# Altium schematic symbol library Gamepad_Schematic_Library.SchLib: 10 symbols
Pins are listed as number, name and electrical type; pins without a type are passive.

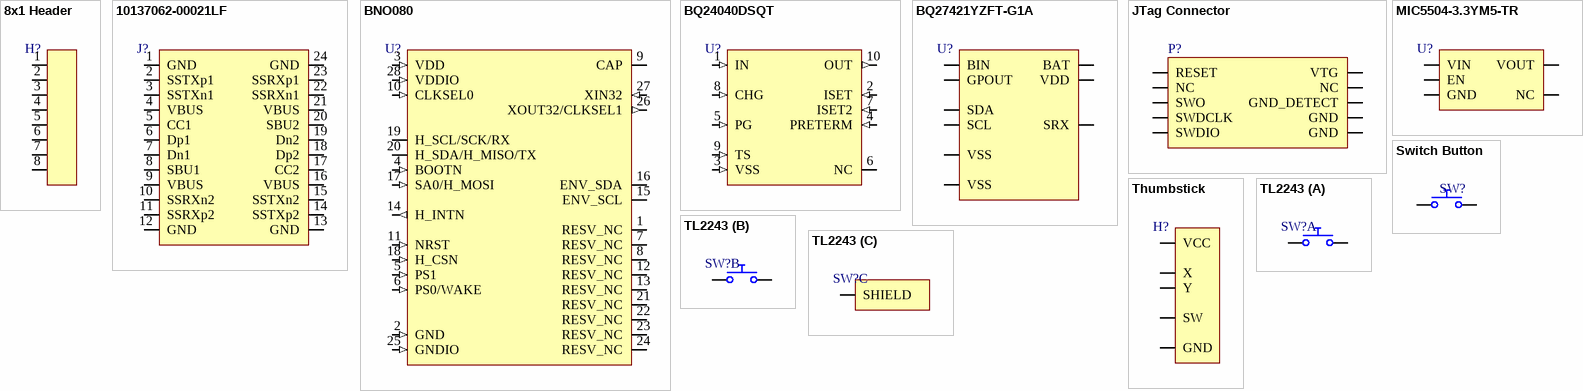
[diagram p0: symbols 8x1 Header to TL2243]

## 8x1 Header
designator H?  (value not drawn)
System: Connector
footprint SMD Header Female
footprint SMD Header Male
pins: 1, 2, 3, 4, 5, 6, 7, 8

## 10137062-00021LF
designator J?  (value not drawn)
Conn USB Type C RCP 24 POS 0.5mm Solder RA SMD/Thru-Hole 24 Terminal 1Port T/R; Manufacturer 1: Amphenol FCI; Manufacturer Part Number 1: 10137062-00021LF; Supplier 1: Digi-Key; Supplier Part Number 1: 609-6109-1-ND; RoHS: No; Stock 1: 8265; Pricing 1: 1=2.16000, 10=1.95600, 25=1.83600, 50=1.75620, 100=1.67640, 250=1.51676, 500=1.39702 (USD)
footprint USB Type C
pins: 1 GND, 2 SSTXp1, 3 SSTXn1, 4 VBUS, 5 CC1, 6 Dp1, 7 Dn1, 8 SBU1, 9 VBUS, 10 SSRXn2, 11 SSRXp2, 12 GND, 13 GND, 14 SSTXp2, 15 SSTXn2, 16 VBUS, 17 CC2, 18 Dp2, 19 Dn2, 20 SBU2, 21 VBUS, 22 SSRXn1, 23 SSRXp1, 24 GND

## BNO080
designator U?  (value not drawn)
IMU ACCEL/GYRO/MAG I2C 32BIT; Manufacturer 1: Hillcrest Laboratories; Manufacturer Part Number 1: BNO080; Sensor Type: Accelerometer,Gyroscope,Magnetometer; Output Type: SPI,I2C; Supplier 1: Digi-Key; Supplier Part Number 1: 1888-1000-1-ND; RoHS: No; Category: Inertial Measurement Units (IMUs); Mount: Surface Mount; Case/Package: LGA; Min Operating Temperature: -40°C; Max Operating Temperature: 85°C; Packaging: Tape and Reel; ComponentLink1URL: http://www.hillcrestlabs.com/download/5a05f340566d07c196001ec1?src-supplier=Digi-Key; ComponentLink1Description: http://www.hillcrestlabs.com/download/5a05f340566d07c196001ec1?src-supplier=Digi-Key
footprint BNO080
pins: 1 RESV_NC, 2 GND (in), 3 VDD (in), 4 BOOTN (in), 5 PS1 (in), 6 PS0/WAKE (in), 7 RESV_NC, 8 RESV_NC, 9 CAP, 10 CLKSEL0 (in), 11 NRST (in), 12 RESV_NC, 13 RESV_NC, 14 H_INTN (out), 15 ENV_SCL (io), 16 ENV_SDA (io), 17 SA0/H_MOSI (in), 18 H_CSN (in), 19 H_SCL/SCK/RX (io), 20 H_SDA/H_MISO/TX (io), 21 RESV_NC, 22 RESV_NC, 23 RESV_NC, 24 RESV_NC, 25 GNDIO (in), 26 XOUT32/CLKSEL1 (out), 27 XIN32 (in), 28 VDDIO (in)

## BQ24040DSQT
designator U?  (value not drawn)
Battery Charging IC 3.5...28 V DFN-10, BQ24040DSQT, Texas Instruments; Number of Cells: 1; Max Input Voltage: 28V; Max Supply Voltage: 6.45V; Min Supply Voltage: 4.75V; Output Voltage: 4.2V; Output Current: 800mA; Min Input Voltage: 3.5V; Operating Supply Current: 1.25A; Max Output Current: 1A; Min Output Voltage: 4.3V; Supplier 1: Digi-Key; Supplier Part Number 1: 296-25136-1-ND; Manufacturer 1: Texas Instruments; Manufacturer Part Number 1: BQ24040DSQT; RoHS: Yes; Category: Voltage Regulators - Linear; Pricing 1: 1=1.49000, 10=1.33200, 25=1.26440, 100=0.97090 (USD); Case/Package: DFN; Number of Pins: 10; Contact Plating: Gold; Min Operating Temperature: -40°C; Max Operating Temperature: 125°C; Package Quantity: 1; Packaging: Tape and Reel; Max Output Voltage: 4.2V; Termination: SMD/SMT; Max Charge Current: 800mA; Length: 2.1mm; Width: 2.1mm; Height: 0.75mm; Radiation Hardening: No; REACH SVHC: No SVHC; Lead Free: Lead Free; ComponentLink1URL: https://datasheet.ciiva.com/1136/1705385-1136576.pdf?src-supplier=Element14; ComponentLink1Description: https://datasheet.ciiva.com/1136/1705385-1136576.pdf?src-supplier=Element14; ComponentLink2URL: https://datasheet.ciiva.com/1932/bq24040-1932321.pdf?src-supplier=Digi-Key; ComponentLink2Description: https://datasheet.ciiva.com/1932/bq24040-1932321.pdf?src-supplier=Digi-Key; ComponentLink3URL: https://datasheet.ciiva.com/15114/getdatasheetpartid-188147-15114498.pdf?src-supplier=Verical; ComponentLink3Description: https://datasheet.ciiva.com/15114/getdatasheetpartid-188147-15114498.pdf?src-supplier=Verical; ComponentLink4URL: https://datasheet.ciiva.com/14153/bq24040-eng-ds-14153172.pdf?src-supplier=Distrelec; ComponentLink4Description: https://datasheet.ciiva.com/14153/bq24040-eng-ds-14153172.pdf?src-supplier=Distrelec; ComponentLink5URL: https://datasheet.ciiva.com/1932/bq24040-1932322.pdf?src-supplier=Digi-Key; ComponentLink5Description: https://datasheet.ciiva.com/1932/bq24040-1932322.pdf?src-supplier=Digi-Key; ComponentLink6URL: https://datasheet.ciiva.com/1932/bq24040-1932323.pdf?src-supplier=Digi-Key; ComponentLink6Description: https://datasheet.ciiva.com/1932/bq24040-1932323.pdf?src-supplier=Digi-Key; ComponentLink7URL: https://datasheet.ciiva.com/3213/bq24041-3213131.pdf?src-supplier=Avnet; ComponentLink7Description: https://datasheet.ciiva.com/3213/bq24041-3213131.pdf?src-supplier=Avnet; ComponentLink8URL: https://datasheet.ciiva.com/1138/bq24040-1138924.pdf?src-supplier=Farnell; ComponentLink8Description: https://datasheet.ciiva.com/1138/bq24040-1138924.pdf?src-supplier=Farnell; ComponentLink9URL: https://datasheet.ciiva.com/3213/bq24041-3213132.pdf?src-supplier=Avnet; ComponentLink9Description: https://datasheet.ciiva.com/3213/bq24041-3213132.pdf?src-supplier=Avnet
footprint BQ24040D
pins: 1 IN (in), 2 ISET (in), 3 VSS (in), 4 PRETERM (in), 5 PG (in), 6 NC, 7 ISET2 (in), 8 CHG (in), 9 TS (in), 10 OUT (out)

## BQ27421YZFT-G1A
designator U?  (value not drawn)
IC BATT FUEL GAUGE LICO2 9DSBGA; Manufacturer 1: Texas Instruments; Manufacturer Part Number 1: BQ27421YZFT-G1A; Output Voltage: 1.8V; Min Supply Voltage: 2.45V; Max Supply Voltage: 4.5V; Interface: I2C; Capacity: 8000mAh; Operating Supply Current: 93uA; Supplier 1: Digi-Key; Supplier Part Number 1: 296-36220-1-ND; RoHS: Yes; Category: Battery Management; Stock 1: 3357; Pricing 1: 1=2.82000, 10=2.53100, 25=2.38760, 100=1.91010 (USD); Mount: Surface Mount; Number of Pins: 9; Contact Plating: Copper,Tin,Silver; Min Operating Temperature: -40°C; Max Operating Temperature: 85°C; Package Quantity: 1; Packaging: Tape and Reel; Length: 1.65mm; Width: 1.61mm; Height: 0.275mm; REACH SVHC: No SVHC; Lead Free: Lead Free; RoHS Compliant: Yes; ComponentLink1URL: https://datasheet.ciiva.com/22726/1726023-22726643.pdf?src-supplier=Element14; ComponentLink1Description: https://datasheet.ciiva.com/22726/1726023-22726643.pdf?src-supplier=Element14; ComponentLink2URL: https://datasheet.ciiva.com/23916/1772511-23916853.pdf?src-supplier=Newark; ComponentLink2Description: https://datasheet.ciiva.com/23916/1772511-23916853.pdf?src-supplier=Newark
footprint BQ27421
pins: A1 GPOUT, A2 SDA, A3 SCL, B1 BIN, B2 VSS, B3 VDD, C1 VSS, C2 SRX, C3 BAT

## JTag Connector
designator P?  (value not drawn)
SAMTEC - FTSH-105-01-F-DV-K - Pin Header, Keying Shroud, Wire-to-Board, 1.27 mm, 2 Rows, 10 Contacts, Surface Mount, FTSH Series; Max Current Rating: 1.75A; Number of Positions: 10; Connector Type: Male Pin; Pitch: 1.27mm; Row Spacing: 0.05inch; Supplier 1: Digi-Key; Manufacturer 1: Samtec; Manufacturer Part Number 1: FTSH-105-01-F-DV-K; RoHS: Yes; Category: Headers and Wire Housings; Stock 1: 4170; Pricing 1: 1=2.84000, 10=2.73100, 100=2.27590, 500=1.93452, 1000=1.65004, 5000=1.47934 (USD); Mount: Surface Mount; Contact Material: Copper,Bronze; Contact Plating: Gold; Color: Black; Housing Color: Black; Housing Material: Polymer; Min Operating Temperature: -55°C; Max Operating Temperature: 125°C; Number of Rows: 2; Packaging: Rail/Tube; Package Quantity: 1; Termination: Solder; Number of Contacts: 10; Orientation: Straight; Series: FTSH; Contact Type: Male Pin; Length: 15.2mm; Height: 3.3mm; Contact Mating Length: 0.12inch; Depth: 3.43mm; Radiation Hardening: No; Lead Free: Lead Free; RoHS Compliant: Yes; ComponentLink1URL: https://datasheet.ciiva.com/19461/2046846-19461026.pdf?src-supplier=Jameco; ComponentLink1Description: https://datasheet.ciiva.com/19461/2046846-19461026.pdf?src-supplier=Jameco; ComponentLink2URL: https://datasheet.ciiva.com/738/ftsh-1xx-xx-xxx-dv-xxx-mkt-738998.pdf?src-supplier=Digi-Key; ComponentLink2Description: https://datasheet.ciiva.com/738/ftsh-1xx-xx-xxx-dv-xxx-mkt-738998.pdf?src-supplier=Digi-Key; ComponentLink3URL: https://datasheet.ciiva.com/10245/ftsh-mt-10245273.pdf?src-supplier=Avnet; ComponentLink3Description: https://datasheet.ciiva.com/10245/ftsh-mt-10245273.pdf?src-supplier=Avnet; ComponentLink4URL: https://datasheet.ciiva.com/16657/ftsh-mt-16657371.pdf?src-supplier=Avnet+Europe; ComponentLink4Description: https://datasheet.ciiva.com/16657/ftsh-mt-16657371.pdf?src-supplier=Avnet+Europe; ComponentLink5URL: https://datasheet.ciiva.com/15195/getdatasheetpartid-133463-15195260.pdf?src-supplier=Verical; ComponentLink5Description: https://datasheet.ciiva.com/15195/getdatasheetpartid-133463-15195260.pdf?src-supplier=Verical; Supplier Part Number 1: SAM8796-ND
footprint JTAG 10 pin SMD
pins: 1 RESET, 2 NC, 3 SWO, 4 SWDCLK, 5 SWDIO, 6 VTG, 7 GND, 8 GND, 9 NC, 10 GND_DETECT

## MIC5504-3.3YM5-TR
designator U?  (value not drawn)
MICROCHIP - MIC5504-3.3YM5-TR - LDO VOLT REG, 0.3A, 3.3V, SOT-23-5; Min Input Voltage: 2.5V; Max Input Voltage: 5.5V; Output Current: 300mA; Dropout Voltage: 380mV; Number of Outputs: 1; Quiescent Current: 38uA; Accuracy: 3%; Operating Supply Current: 42uA; Power Supply Rejection Ratio (PSRR): 60dB; Output Type: Fixed; Supplier 1: Digi-Key; Supplier Part Number 1: 576-4764-1-ND; Manufacturer 1: Microchip; Manufacturer Part Number 1: MIC5504-3.3YM5-TR; RoHS: Yes; Category: Voltage Regulators - Linear; Stock 1: 29072; Pricing 1: 1=0.13000, 25=0.09000 (USD); Mount: Surface Mount; Case/Package: SOT-23-5; Number of Pins: 5; Min Operating Temperature: -40°C; Max Operating Temperature: 125°C; Nominal Output Voltage: 3.3V; Packaging: Tape and Reel; Output Voltage: 3.3V; Max Output Current: 300mA; Length: 2.9mm; Width: 1.6mm; Height: 1.1mm; REACH SVHC: No SVHC; RoHS Compliant: No; ComponentLink1URL: https://datasheet.ciiva.com/46425/1856860-46425639.pdf?src-supplier=Element14; ComponentLink1Description: https://datasheet.ciiva.com/46425/1856860-46425639.pdf?src-supplier=Element14
footprint MIC5504
pins: 1 VIN, 2 GND, 3 EN, 4 NC, 5 VOUT

## Switch Button
designator SW?  (value not drawn)
footprint ButtonPad Version 1
footprint ButtonPad Version 2
pins: 1, 2

## Thumbstick
designator H?  (value not drawn)
footprint Thumbstick 2
pins: 1 VCC, 2 X, 3 Y, 4 SW, 5 GND

## TL2243
designator SW?  (value not drawn)
SWITCH TACTILE SPSTX2 0.05A 12V; Manufacturer 1: E-Switch; Manufacturer Part Number 1: TL2243; Mechanical Life: 30000Cycles; Voltage Rating (DC): 100V; Throw Configuration: SPST; Contact Resistance: 100mR; Operating Force: 180gf; Current Rating: 50mA; Illumination Type: Non-Illuminated,Illuminated; Switch Travel: 0.25mm; Switch Function: Off-Mom; Actuator Length: 3.8mm; Supplier 1: Digi-Key; Supplier Part Number 1: EG4606-ND; RoHS: Yes; Category: Tactile Switches; Stock 1: 5183; Pricing 1: 1=0.69000, 10=0.66200, 25=0.63640, 100=0.55230, 250=0.50396, 500=0.46832, 1000=0.41996, 2500=0.39450, 5000=0.36651 (USD); Mount: Through Hole; Contact Material: Silver; Min Operating Temperature: -20°C; Max Operating Temperature: 70°C; Package Quantity: 600; Packaging: Bulk; Max Voltage Rating (DC): 12V; Termination: PC Pin; Electrical Life: 30000Cycles; Orientation: Right Angle; Series: TL2243; Size: 7.3mm; Lead Free: Lead Free; RoHS Compliant: Yes; ComponentLink1URL: https://datasheet.ciiva.com/2900/tl2243-2900969.pdf?src-supplier=Digi-Key; ComponentLink1Description: https://datasheet.ciiva.com/2900/tl2243-2900969.pdf?src-supplier=Digi-Key; ComponentLink2URL: https://datasheet.ciiva.com/13526/tl2243-26358-13526538.pdf?src-supplier=Mouser; ComponentLink2Description: https://datasheet.ciiva.com/13526/tl2243-26358-13526538.pdf?src-supplier=Mouser; ComponentLink3URL: https://datasheet.ciiva.com/31840/p010405-31840495.pdf?src-supplier=Onlinecomponents.com; ComponentLink3Description: https://datasheet.ciiva.com/31840/p010405-31840495.pdf?src-supplier=Onlinecomponents.com; ComponentLink4URL: https://datasheet.ciiva.com/16370/p010405m-16370087.pdf?src-supplier=Future+Electronics; ComponentLink4Description: https://datasheet.ciiva.com/16370/p010405m-16370087.pdf?src-supplier=Future+Electronics
footprint TL2243
part A pins: 1, 4
part B pins: 2, 3
part C pins: SHIELD